# Altium footprint library 942H-2C-24DC.PcbLib: 1 footprints
Each footprint in its own frame and in the unit in brackets; x right, y up, seen from the top. Pads: shape width x height; smd on the part's side, far side on the other; paste and mask are expansions set on the pad; w line width, h text height; cw(c..) or ccw(c..) is an arc to the next point about the centre after c.
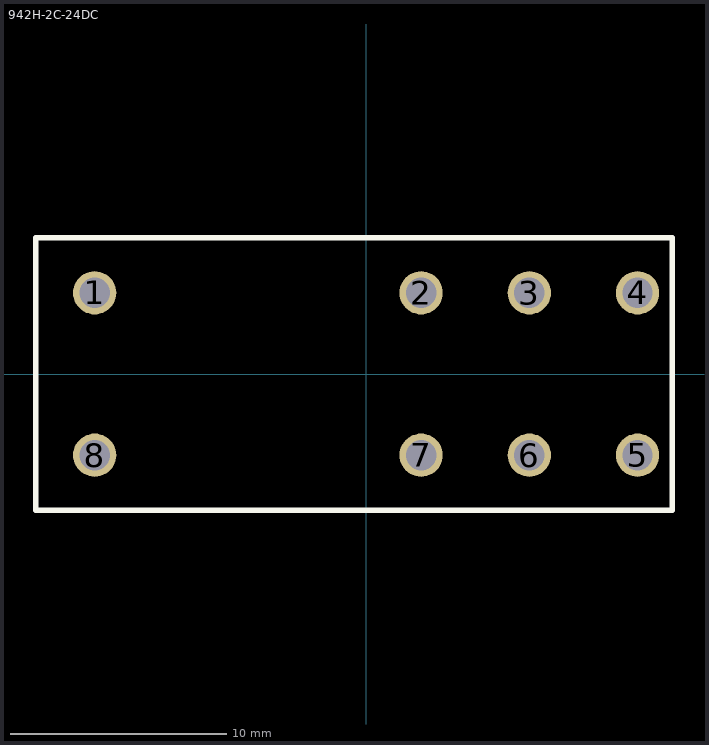
[diagram p0: the footprint, top view; thin cyan lines are the x and y axes]

## 942H-2C-24DC [mm]
pads (8):
  round 2 hole 1.4 paste+0 mask+0.051: 1(-12.54,3.75) 2(2.54,3.75) 3(7.54,3.75) 4(12.54,3.75) 5(12.54,-3.75) 6(7.54,-3.75) 7(2.54,-3.75) 8(-12.539,-3.75)
Top Overlay:
  lines w0.254: -15.26,-6.3 -15.26,6.3 14.14,6.3 14.14,-6.3 -15.26,-6.3